# Altium footprint library JST_B6B-XH-A(LF)(SN).PcbLib: 1 footprints
Each footprint in its own frame and in the unit in brackets; x right, y up, seen from the top. Pads: shape width x height; smd on the part's side, far side on the other; paste and mask are expansions set on the pad; w line width, h text height; cw(c..) or ccw(c..) is an arc to the next point about the centre after c.
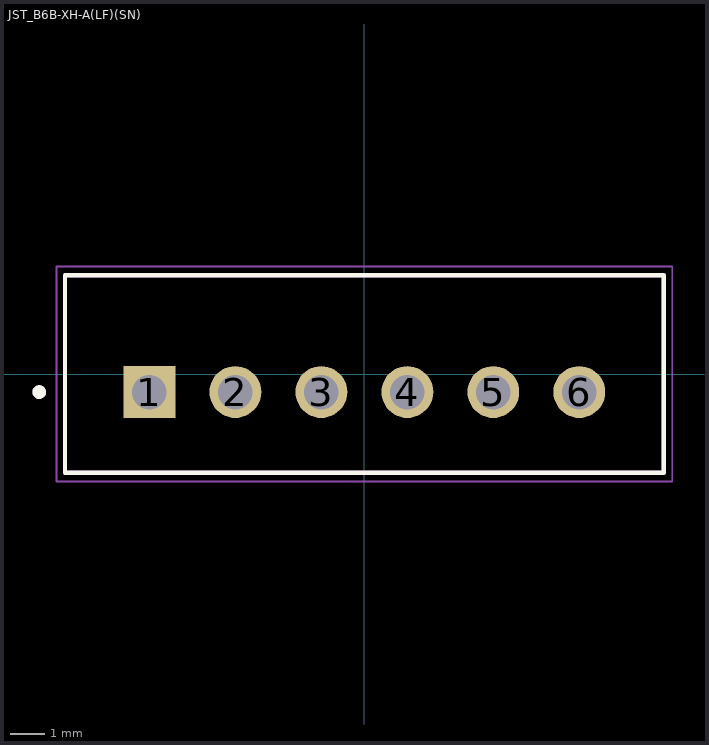
[diagram p0: the footprint, top view; thin cyan lines are the x and y axes]

## JST_B6B-XH-A(LF)(SN) [mm]
pads (6):
  rect 1.508x1.508 hole 1: 1(-6.25,-0.525)
  round 1.508 hole 1: 2(-3.75,-0.525) 3(-1.25,-0.525) 4(1.25,-0.525) 5(3.75,-0.525) 6(6.25,-0.525)
Top Overlay:
  circle w0.2: c-9.45,-0.525 r0.1
  lines w0.127: -8.7,-2.875 -8.7,2.875 8.7,2.875 8.7,-2.875 -8.7,-2.875
Mechanical 13:
  circle w0.2: c-9.45,-0.525 r0.1
  lines w0.127: -8.7,-2.875 -8.7,2.875 8.7,2.875 8.7,-2.875 -8.7,-2.875
Mechanical 15:
  lines w0.05: -8.95,-3.125 8.95,-3.125 8.95,3.125 -8.95,3.125 -8.95,-3.125
3D body "B6B-XH-A-LF--SN---3DModel-STEP-418109.STEP": height 7, standoff -3.4, extent -8.7,-2.875 8.7,2.875